# Altium footprint library Footprint1.PcbLib: 1 footprints
Each footprint in its own frame and in the unit in brackets; x right, y up, seen from the top. Pads: shape width x height; smd on the part's side, far side on the other; paste and mask are expansions set on the pad; w line width, h text height; cw(c..) or ccw(c..) is an arc to the next point about the centre after c.
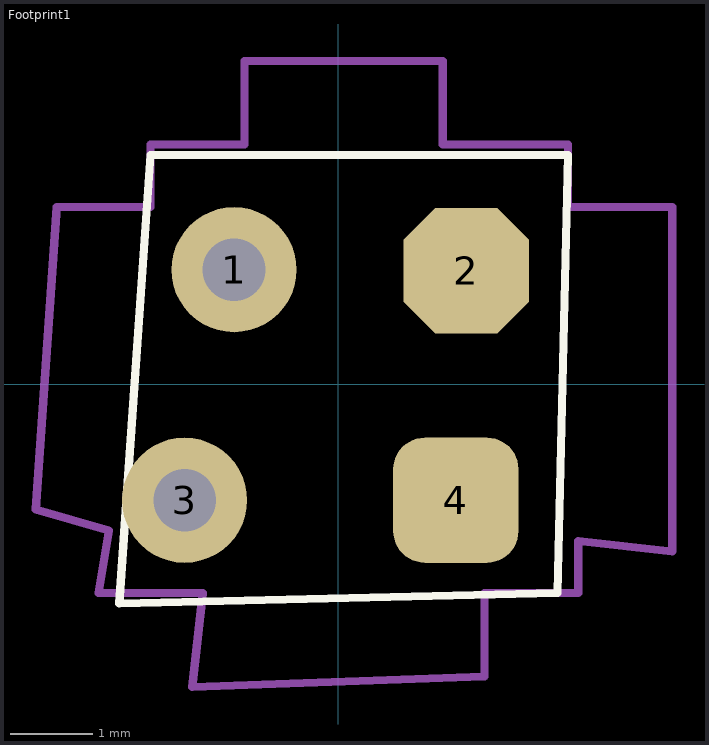
[diagram p0: the footprint, top view; thin cyan lines are the x and y axes]

## Footprint1 [mil]
pads (4):
  round 60 hole 30: 1(-50,55) 3(-73.69,-55.49)
  oct 60x60 smd: 2(61.31,54.51)
  rrect50% 60x60 smd: 4(56.31,-55.49)
Top Overlay:
  lines w3.94: -105,-105 -90,110 110,110 105,-100 -105,-105
Top Courtyard (Mech15):
  lines w3.94: -145,-60 -135,85 -90,85 -90,115 -45,115 -45,155 50,155 50,115 110,115 110,85 160,85 160,-80 115,-75 115,-100 70,-100 70,-140 -70,-145 -65,-100 -115,-100 -110,-70 -145,-60
3D body: height 34.09, standoff 0, extent -105,-110 125,115